# Altium schematic symbol library LCD.SchLib: 3 symbols
Pins are listed as number, name and electrical type; pins without a type are passive.

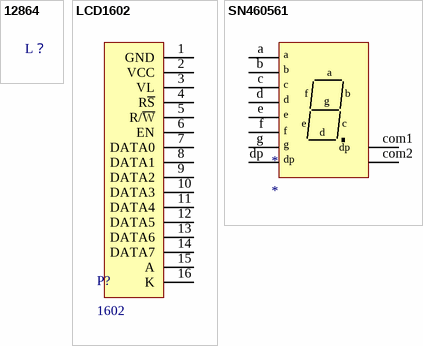
[diagram p0: symbols 12864 to SN460561]

## 12864
designator L？  (value not drawn)

## LCD1602
designator P?, comment 1602
footprint 1602A
pins: 1 GND, 2 VCC, 3 VL, 4 R~{S}, 5 R/~{W}, 6 EN, 7 DATA0, 8 DATA1, 9 DATA2, 10 DATA3, 11 DATA4, 12 DATA5, 13 DATA6, 14 DATA7, 15 A, 16 K

## SN460561
designator *
footprint S05611A-B
pins: a, b, c, com1, com2, d, dp, e, f, g